# Altium footprint library PCB - CONNECTOR - HARWIN - HARWIN M20-7820245.PcbLib: 1 footprints
Each footprint in its own frame and in the unit in brackets; x right, y up, seen from the top. Pads: shape width x height; smd on the part's side, far side on the other; paste and mask are expansions set on the pad; w line width, h text height; cw(c..) or ccw(c..) is an arc to the next point about the centre after c.
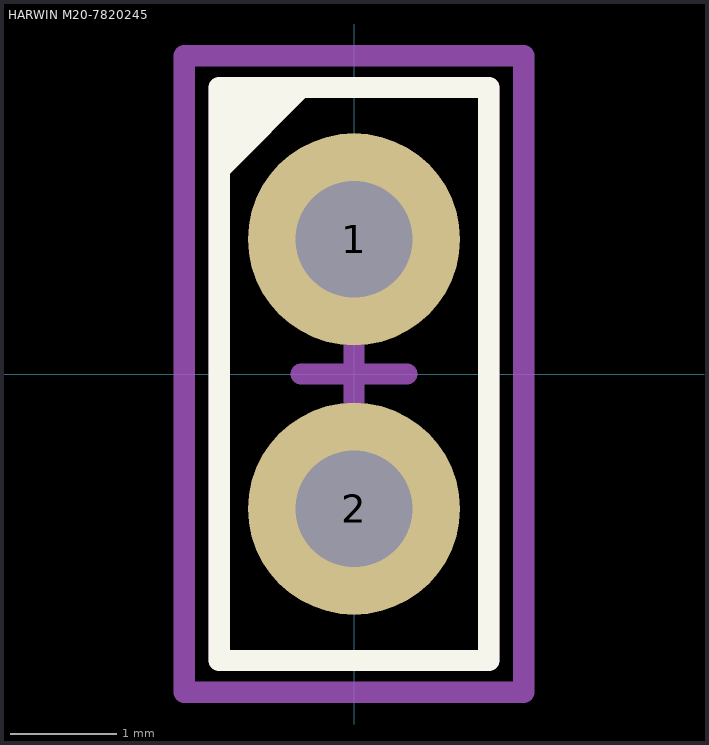
[diagram p0: the footprint, top view; thin cyan lines are the x and y axes]

## HARWIN M20-7820245 [mm] "2.54mm DIL PC TAIL PIN HEADER ASSEMBLY"
height 5
pads (2):
  round 2 hole 1.1: 1(0,1.27) 2(0,-1.27)
Top Overlay:
  region: -1.23,2.73 -1.23,1.83 -0.33,2.73
  lines w0.2: -1.27,-2.7 1.27,-2.7 1.27,2.7 -1.27,2.7 -1.27,-2.7
Top Assembly:
  lines w0.2: -0.5,0 0.5,0 ; 0,-0.5 0,0.5 ; -1.27,-2.7 1.27,-2.7 1.27,2.7 -1.27,2.7 -1.27,-2.7
Top Courtyard (Mech15):
  lines w0.2: -1.6,-3 1.6,-3 1.6,3 -1.6,3 -1.6,-3
3D body "M20-7820242.step": height 8.5, standoff -3, extent -1.25,-2.74 1.25,2.74